# Altium integrated library PMIC.IntLib: 1 symbol
Pins are listed as number, name and electrical type; pins without a type are passive.

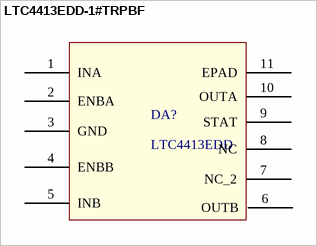
[diagram p0: symbol LTC4413EDD-1#TRPBF]

## LTC4413EDD-1#TRPBF
designator DA?, comment LTC4413EDD
footprint LTC4413EDD
pins: 1 INA, 2 ENBA, 3 GND (power), 4 ENBB, 5 INB, 6 OUTB, 7 NC_2, 8 NC, 9 STAT, 10 OUTA, 11 EPAD